# Altium footprint library PICO_Pcb_d.PcbLib: 3 footprints
Each footprint in its own frame and in the unit in brackets; x right, y up, seen from the top. Pads: shape width x height; smd on the part's side, far side on the other; paste and mask are expansions set on the pad; w line width, h text height; cw(c..) or ccw(c..) is an arc to the next point about the centre after c.
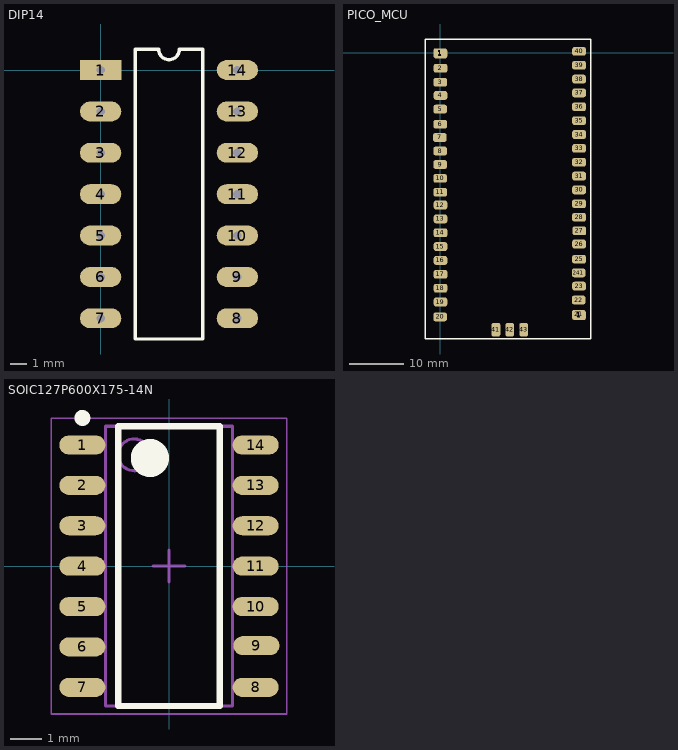
[diagram p0: the footprints below, top view; thin cyan lines are the x and y axes]

## DIP14 [mm]
pads (14):
  rect 2.5x1.2 hole 0.5: 1(0,0)
  oval 2.5x1.2 hole 0.5: 2(0,-2.5) 3(0,-5) 4(0,-7.5) 5(0,-10) 6(0,-12.5) 7(0,-15) 8(8.26,-15) 9(8.26,-12.5) 10(8.26,-10) 11(8.26,-7.5) 12(8.26,-5) 13(8.26,-2.5) 14(8.26,0)
Top Overlay:
  lines w0.2: 2.085,-16.25 2.085,1.25 3.505,1.25 ccw(c4.13,1.25) 4.755,1.25 6.175,1.25 6.175,-16.25 2.085,-16.25

## PICO_MCU [mm]
pads (57):
  rrect50% 2.5x1.6 smd: 1(-0.064,-0.191) 1(-0.064,-0.191) 1(-0.064,-0.128) 1(-0.064,0) 1(0,-0.255) 1(0,-0.255) 1(0,-0.191) 1(0,-0.064) 1(25.336,-48.158) 1(25.336,-48.03) 1(25.336,-47.966) 1(25.399,-48.221) 1(25.399,-48.094) 1(25.399,-48.03) 1(25.399,-48.03) 2(0,-2.868) 3(-0.064,-5.418) 4(0,-7.84) 5(-0.064,-10.351) 6(-0.064,-13.131) 7(-0.128,-15.553) 8(-0.064,-18.039) 9(-0.064,-20.511) 10(-0.064,-23.051) 11(-0.064,-25.591) 12(0,-27.94) 13(0,-30.48) 14(0,-33.02) 15(0,-35.56) 16(0,-38.1) 17(0,-40.64) 18(0,-43.18) 19(0,-45.72) 20(-0.064,-48.451) 21(25.336,-47.966) 22(25.336,-45.353) 23(25.399,-42.803) 25(25.399,-37.87) 26(25.399,-35.091) 27(25.463,-32.668) 28(25.399,-30.182) 29(25.399,-27.71) 30(25.399,-25.17) 31(25.399,-22.63) 32(25.399,-20.09) 33(25.399,-17.55) 34(25.399,-15.01) 35(25.399,-12.47) 36(25.399,-9.93) 37(25.399,-7.39) 38(25.399,-4.85) 39(25.399,-2.31) 40(25.399,0.23) 241(25.336,-40.381)
  rrect50% 1.6x2.5 smd: 41(10.16,-50.8) 42(12.7,-50.8) 43(15.24,-50.8)
Top Overlay:
  lines w0.254: -2.75,-52.5 -2.75,2.5 27.5,2.5 27.5,-52.5 -2.75,-52.5
3D body "Pico-R3.step": height 3.23, standoff -0.5, extent 2.25,-49 23.25,3.3

## SOIC127P600X175-14N [mm] "SOIC, 14-Leads, Body 8.65x3.90mm, Pitch 1.27mm, IPC Medium Density"
height 1.75
pads (14):
  oval 1.45x0.6 smd: 1(-2.725,3.81) 2(-2.725,2.54) 3(-2.725,1.27) 4(-2.725,0) 5(-2.725,-1.27) 6(-2.725,-2.54) 7(-2.725,-3.81) 8(2.725,-3.81) 9(2.75,-2.5) 10(2.725,-1.27) 11(2.725,0) 12(2.725,1.27) 13(2.725,2.54) 14(2.725,3.81)
Top Overlay:
  circle w0.6: c-0.6,3.4 r0.3
  circle w0.25: c-2.725,4.66 r0.125
  lines w0.2: -1.6,-4.4 1.6,-4.4 1.6,4.4 -1.6,4.4 -1.6,-4.4
Mechanical 13:
  circle w0.1: c-1.1,3.5 r0.5
  lines w0.1: -2,-4.4 2,-4.4 2,4.4 -2,4.4 -2,-4.4
Mechanical 15:
  lines w0.05: -3.7,-4.65 3.7,-4.65 3.7,4.65 -3.7,4.65 -3.7,-4.65
  lines w0.1: -0.5,0 0.5,0 ; 0,-0.5 0,0.5
3D body: height 1.75, standoff 0.25, extent -2,-4.4 2,4.4